# Altium integrated library TI Power Management Linear Regulator Dual Channel LDO.IntLib: 299 symbols (part 14 of 15)
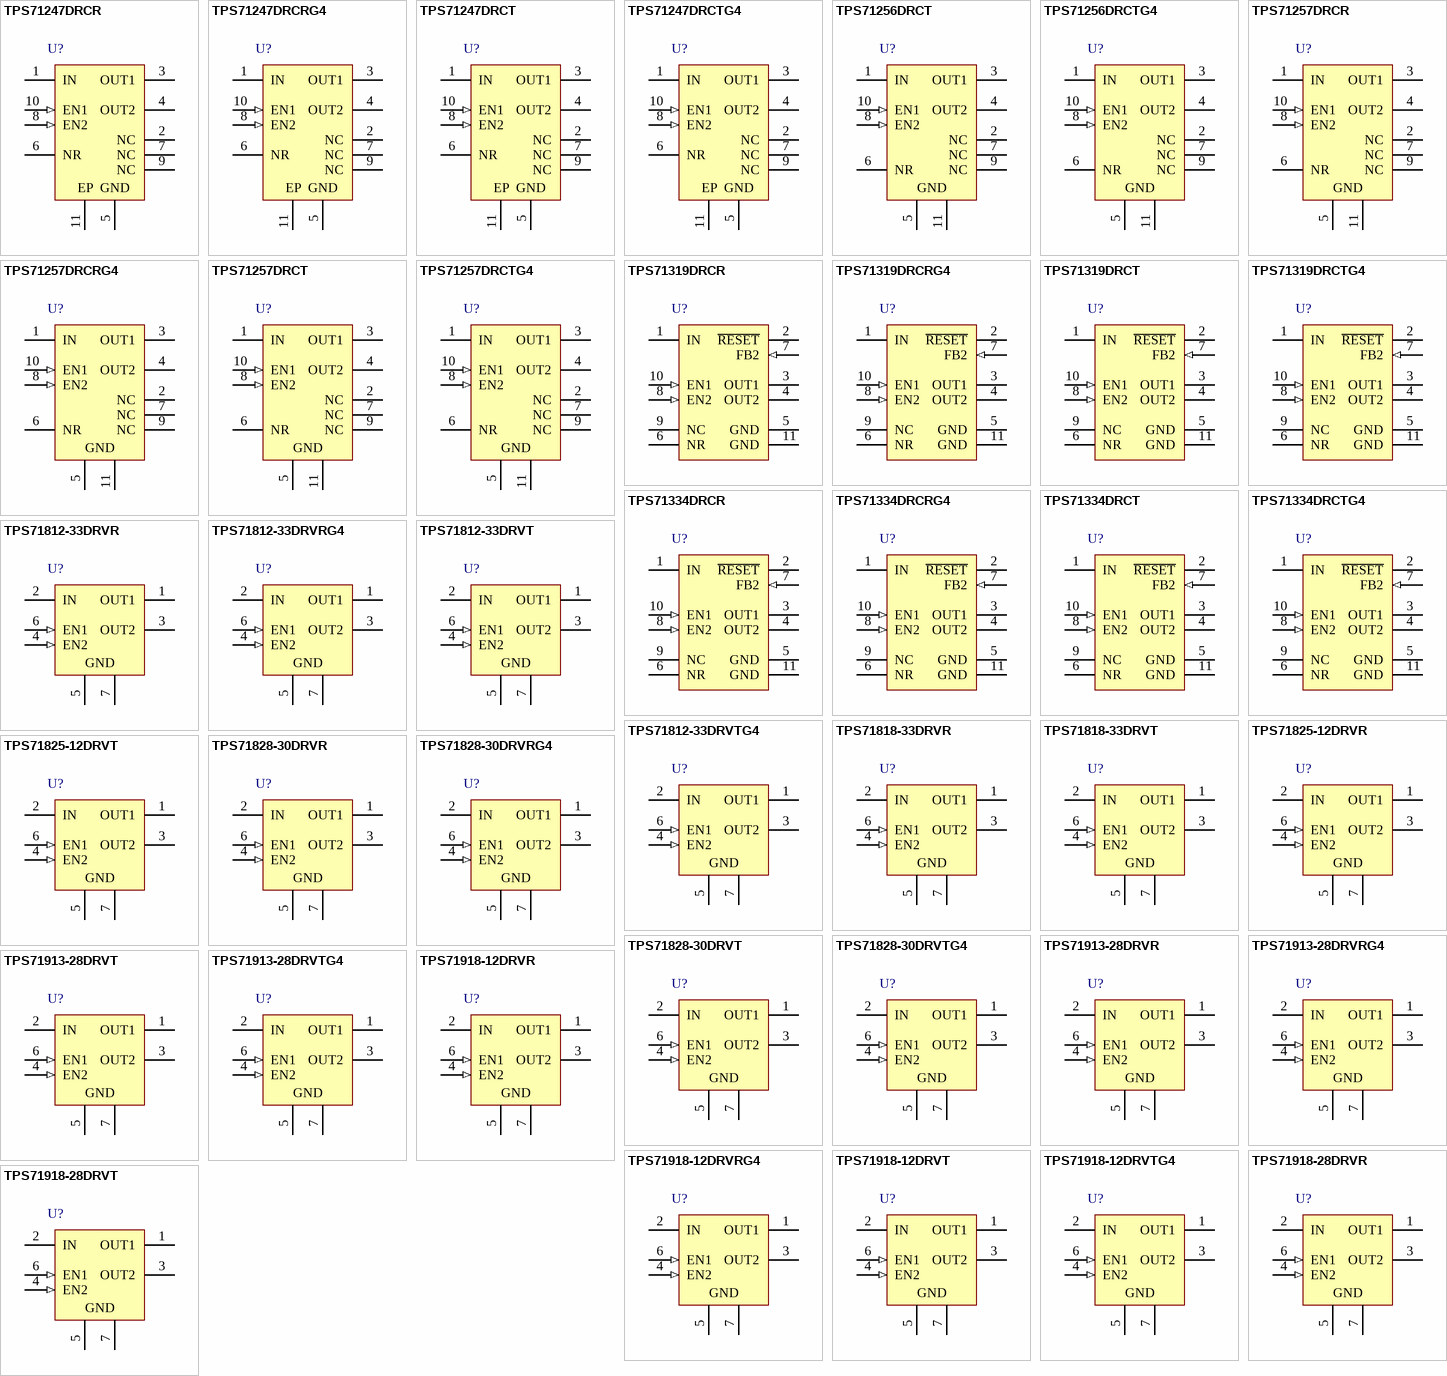
[diagram p24: symbols TPS71247DRCR to TPS71918-28DRVT]

## TPS71918-12DRVR
designator U?
Dual Output High PSRR LDO, 200 mA, Fixed 1.8, 1.2 V Output, 2.7 to 6.5 V Input, 6-pin SON (DRV), -40 to 125 degC, Green (RoHS & no Sb/Br); Manufacturer: Texas Instruments; PartNumber: TPS71918-12DRVR; Iout(Max)(A): 0.2; Iq(Typ)(mA): 0.09; SubFamily: Dual Channel LDO; Vdo(Typ)(mV): 230; Vin(Max)(V): 6.5; Vin(Min)(V): 2.7; Vout(Max)(V): 1.8; Vout2(Max)(V): 1.2; DatasheetVersion: SBVS088C; PackageVersion: 4206925/E; PackageReference: DRV6-1600X1000TP; PackageDescription: 6-Pin Plastic Small Outline No-Lead, Body 2 x 2 mm, Pitch 0.65 mm; Supplier 1: Digi-Key; Supplier Part Number 1: 296-22010-2-ND; Supplier 2: Digi-Key; Supplier Part Number 2: 296-22010-1-ND; Supplier 3: Digi-Key; Supplier Part Number 3: 296-22010-6-ND; Supplier 4: Newark; Supplier Part Number 4: 53M4011; Supplier 5: Mouser; Supplier Part Number 5: 595-TPS71918-12DRVR; Eco-Plan: Green (RoHS & no Sb/Br); Fixed Output Options(V): 1.8, 1.2; Iout2(A): 0.2; Vout(Min)(V): 1.8; Vout2(Min)(V): 1.2; Mounting Technology: Surface Mount; ComponentLink1Description: Manufacturer URL; ComponentLink1URL: http://www.ti.com/; ComponentLink2Description: Datasheet; ComponentLink2URL: http://www.ti.com/general/docs/lit/getliterature.tsp?genericPartNumber=TPS71918-12&fileType=pdf; ComponentLink3Description: Package Specification; ComponentLink3URL: http://www.ti.com/litv/pdf/mpds216d
footprint TI-DRV6-1600X1000TP_V (SON, 6-Leads, Body 2x2mm, Pitch 0.65mm, Thermal Pad 1X1.6mm)
pins: 1 OUT1 (power) "Output of Regulator 1. A small ceramic capacitor (typically >= 1uF) is needed from this pin to ground to assure stability.", 2 IN (power) "Input supply to both regulators.", 3 OUT2 (power) "Output of Regulator 2. A small ceramic capacitor (typically >= 1uF) is needed from this pin to ground to assure stability.", 4 EN2 (in) "Enable pin for Regulator 2. Driving the Enable pin (EN2) high turns on Regulator 2. Driving this pin low puts Regulator 2 into shutdown mode, reducing operating current.", 5 GND (power) "Ground.", 6 EN1 (in) "Enable pin for Regulator 1. Driving the Enable pin (EN1) high turns on Regulator 1. Driving this pin low puts Regulator 1 into shutdown mode, reducing operating current.", 7 GND (power) "DRV thermal pad should also be connected to ground."

## TPS71918-12DRVRG4
designator U?
Dual Output High PSRR LDO, 200 mA, Fixed 1.8, 1.2 V Output, 2.7 to 6.5 V Input, 6-pin SON (DRV), -40 to 125 degC, Green (RoHS & no Sb/Br); Manufacturer: Texas Instruments; PartNumber: TPS71918-12DRVRG4; Iout(Max)(A): 0.2; Iq(Typ)(mA): 0.09; SubFamily: Dual Channel LDO; Vdo(Typ)(mV): 230; Vin(Max)(V): 6.5; Vin(Min)(V): 2.7; Vout(Max)(V): 1.8; Vout2(Max)(V): 1.2; DatasheetVersion: SBVS088C; PackageVersion: 4206925/E; PackageReference: DRV6-1600X1000TP; PackageDescription: 6-Pin Plastic Small Outline No-Lead, Body 2 x 2 mm, Pitch 0.65 mm; Supplier 1: Digi-Key; Supplier Part Number 1: TPS71918-12DRVRG4-ND; Supplier 2: Newark; Supplier Part Number 2: 53M4012; Supplier 3: Mouser; Supplier Part Number 3: 595-TPS7191812DRVRG4; Eco-Plan: Green (RoHS & no Sb/Br); Fixed Output Options(V): 1.8, 1.2; Iout2(A): 0.2; Vout(Min)(V): 1.8; Vout2(Min)(V): 1.2; Mounting Technology: Surface Mount; ComponentLink1Description: Manufacturer URL; ComponentLink1URL: http://www.ti.com/; ComponentLink2Description: Datasheet; ComponentLink2URL: http://www.ti.com/general/docs/lit/getliterature.tsp?genericPartNumber=TPS71918-12&fileType=pdf; ComponentLink3Description: Package Specification; ComponentLink3URL: http://www.ti.com/litv/pdf/mpds216d
footprint TI-DRV6-1600X1000TP_V (SON, 6-Leads, Body 2x2mm, Pitch 0.65mm, Thermal Pad 1X1.6mm)
pins: 1 OUT1 (power) "Output of Regulator 1. A small ceramic capacitor (typically >= 1uF) is needed from this pin to ground to assure stability.", 2 IN (power) "Input supply to both regulators.", 3 OUT2 (power) "Output of Regulator 2. A small ceramic capacitor (typically >= 1uF) is needed from this pin to ground to assure stability.", 4 EN2 (in) "Enable pin for Regulator 2. Driving the Enable pin (EN2) high turns on Regulator 2. Driving this pin low puts Regulator 2 into shutdown mode, reducing operating current.", 5 GND (power) "Ground.", 6 EN1 (in) "Enable pin for Regulator 1. Driving the Enable pin (EN1) high turns on Regulator 1. Driving this pin low puts Regulator 1 into shutdown mode, reducing operating current.", 7 GND (power) "DRV thermal pad should also be connected to ground."

## TPS71918-12DRVT
designator U?
Dual Output High PSRR LDO, 200 mA, Fixed 1.8, 1.2 V Output, 2.7 to 6.5 V Input, 6-pin SON (DRV), -40 to 125 degC, Green (RoHS & no Sb/Br); Manufacturer: Texas Instruments; PartNumber: TPS71918-12DRVT; Iout(Max)(A): 0.2; Iq(Typ)(mA): 0.09; SubFamily: Dual Channel LDO; Vdo(Typ)(mV): 230; Vin(Max)(V): 6.5; Vin(Min)(V): 2.7; Vout(Max)(V): 1.8; Vout2(Max)(V): 1.2; DatasheetVersion: SBVS088C; PackageVersion: 4206925/E; PackageReference: DRV6-1600X1000TP; PackageDescription: 6-Pin Plastic Small Outline No-Lead, Body 2 x 2 mm, Pitch 0.65 mm; Supplier 1: Digi-Key; Supplier Part Number 1: TPS71918-12DRVT-ND; Supplier 2: Newark; Supplier Part Number 2: 53M4013; Supplier 3: Mouser; Supplier Part Number 3: 595-TPS71918-12DRVT; Eco-Plan: Green (RoHS & no Sb/Br); Fixed Output Options(V): 1.8, 1.2; Iout2(A): 0.2; Vout(Min)(V): 1.8; Vout2(Min)(V): 1.2; Mounting Technology: Surface Mount; ComponentLink1Description: Manufacturer URL; ComponentLink1URL: http://www.ti.com/; ComponentLink2Description: Datasheet; ComponentLink2URL: http://www.ti.com/general/docs/lit/getliterature.tsp?genericPartNumber=TPS71918-12&fileType=pdf; ComponentLink3Description: Package Specification; ComponentLink3URL: http://www.ti.com/litv/pdf/mpds216d
footprint TI-DRV6-1600X1000TP_V (SON, 6-Leads, Body 2x2mm, Pitch 0.65mm, Thermal Pad 1X1.6mm)
pins: 1 OUT1 (power) "Output of Regulator 1. A small ceramic capacitor (typically >= 1uF) is needed from this pin to ground to assure stability.", 2 IN (power) "Input supply to both regulators.", 3 OUT2 (power) "Output of Regulator 2. A small ceramic capacitor (typically >= 1uF) is needed from this pin to ground to assure stability.", 4 EN2 (in) "Enable pin for Regulator 2. Driving the Enable pin (EN2) high turns on Regulator 2. Driving this pin low puts Regulator 2 into shutdown mode, reducing operating current.", 5 GND (power) "Ground.", 6 EN1 (in) "Enable pin for Regulator 1. Driving the Enable pin (EN1) high turns on Regulator 1. Driving this pin low puts Regulator 1 into shutdown mode, reducing operating current.", 7 GND (power) "DRV thermal pad should also be connected to ground."

## TPS71918-12DRVTG4
designator U?
Dual Output High PSRR LDO, 200 mA, Fixed 1.8, 1.2 V Output, 2.7 to 6.5 V Input, 6-pin SON (DRV), -40 to 125 degC, Green (RoHS & no Sb/Br); Manufacturer: Texas Instruments; PartNumber: TPS71918-12DRVTG4; Iout(Max)(A): 0.2; Iq(Typ)(mA): 0.09; SubFamily: Dual Channel LDO; Vdo(Typ)(mV): 230; Vin(Max)(V): 6.5; Vin(Min)(V): 2.7; Vout(Max)(V): 1.8; Vout2(Max)(V): 1.2; DatasheetVersion: SBVS088C; PackageVersion: 4206925/E; PackageReference: DRV6-1600X1000TP; PackageDescription: 6-Pin Plastic Small Outline No-Lead, Body 2 x 2 mm, Pitch 0.65 mm; Supplier 1: Digi-Key; Supplier Part Number 1: TPS71918-12DRVTG4-ND; Supplier 2: Newark; Supplier Part Number 2: 53M4014; Supplier 3: Mouser; Supplier Part Number 3: 595-TPS7191812DRVTG4; Eco-Plan: Green (RoHS & no Sb/Br); Fixed Output Options(V): 1.8, 1.2; Iout2(A): 0.2; Vout(Min)(V): 1.8; Vout2(Min)(V): 1.2; Mounting Technology: Surface Mount; ComponentLink1Description: Manufacturer URL; ComponentLink1URL: http://www.ti.com/; ComponentLink2Description: Datasheet; ComponentLink2URL: http://www.ti.com/general/docs/lit/getliterature.tsp?genericPartNumber=TPS71918-12&fileType=pdf; ComponentLink3Description: Package Specification; ComponentLink3URL: http://www.ti.com/litv/pdf/mpds216d
footprint TI-DRV6-1600X1000TP_V (SON, 6-Leads, Body 2x2mm, Pitch 0.65mm, Thermal Pad 1X1.6mm)
pins: 1 OUT1 (power) "Output of Regulator 1. A small ceramic capacitor (typically >= 1uF) is needed from this pin to ground to assure stability.", 2 IN (power) "Input supply to both regulators.", 3 OUT2 (power) "Output of Regulator 2. A small ceramic capacitor (typically >= 1uF) is needed from this pin to ground to assure stability.", 4 EN2 (in) "Enable pin for Regulator 2. Driving the Enable pin (EN2) high turns on Regulator 2. Driving this pin low puts Regulator 2 into shutdown mode, reducing operating current.", 5 GND (power) "Ground.", 6 EN1 (in) "Enable pin for Regulator 1. Driving the Enable pin (EN1) high turns on Regulator 1. Driving this pin low puts Regulator 1 into shutdown mode, reducing operating current.", 7 GND (power) "DRV thermal pad should also be connected to ground."

## TPS71918-28DRVR
designator U?
Dual Output High PSRR LDO, 200 mA, Fixed 1.8, 2.8 V Output, 0.9 to 6.5 V Input, 6-pin SON (DRV), -40 to 125 degC, Green (RoHS & no Sb/Br); Manufacturer: Texas Instruments; PartNumber: TPS71918-28DRVR; Iout(Max)(A): 0.2; Iq(Typ)(mA): 0.09; SubFamily: Dual Channel LDO; Vdo(Typ)(mV): 230; Vin(Max)(V): 6.5; Vin(Min)(V): 0.9; DatasheetVersion: SBVS088C; PackageVersion: 4206925/E; PackageReference: DRV6-1600X1000TP; PackageDescription: 6-Pin Plastic Small Outline No-Lead, Body 2 x 2 mm, Pitch 0.65 mm; Supplier 1: Digi-Key; Supplier Part Number 1: 296-24833-2-ND; Supplier 2: Digi-Key; Supplier Part Number 2: 296-24833-1-ND; Supplier 3: Digi-Key; Supplier Part Number 3: 296-24833-6-ND; Supplier 4: Newark; Supplier Part Number 4: 25R0137; Supplier 5: Mouser; Supplier Part Number 5: 595-TPS71918-28DRVR; Eco-Plan: Green (RoHS & no Sb/Br); Fixed Output Options(V): 1.8, 2.8; Iout2(A): 0.2; Mounting Technology: Surface Mount; ComponentLink1Description: Manufacturer URL; ComponentLink1URL: http://www.ti.com/; ComponentLink2Description: Datasheet; ComponentLink2URL: http://www.ti.com/general/docs/lit/getliterature.tsp?genericPartNumber=TPS71918-28&fileType=pdf; ComponentLink3Description: Package Specification; ComponentLink3URL: http://www.ti.com/litv/pdf/mpds216d
footprint TI-DRV6-1600X1000TP_V (SON, 6-Leads, Body 2x2mm, Pitch 0.65mm, Thermal Pad 1X1.6mm)
pins: 1 OUT1 (power) "Output of Regulator 1. A small ceramic capacitor (typically >= 1uF) is needed from this pin to ground to assure stability.", 2 IN (power) "Input supply to both regulators.", 3 OUT2 (power) "Output of Regulator 2. A small ceramic capacitor (typically >= 1uF) is needed from this pin to ground to assure stability.", 4 EN2 (in) "Enable pin for Regulator 2. Driving the Enable pin (EN2) high turns on Regulator 2. Driving this pin low puts Regulator 2 into shutdown mode, reducing operating current.", 5 GND (power) "Ground.", 6 EN1 (in) "Enable pin for Regulator 1. Driving the Enable pin (EN1) high turns on Regulator 1. Driving this pin low puts Regulator 1 into shutdown mode, reducing operating current.", 7 GND (power) "DRV thermal pad should also be connected to ground."

## TPS71918-28DRVT
designator U?
Dual Output High PSRR LDO, 200 mA, Fixed 1.8, 2.8 V Output, 0.9 to 6.5 V Input, 6-pin SON (DRV), -40 to 125 degC, Green (RoHS & no Sb/Br); Manufacturer: Texas Instruments; PartNumber: TPS71918-28DRVT; Iout(Max)(A): 0.2; Iq(Typ)(mA): 0.09; SubFamily: Dual Channel LDO; Vdo(Typ)(mV): 230; Vin(Max)(V): 6.5; Vin(Min)(V): 0.9; DatasheetVersion: SBVS088C; PackageVersion: 4206925/E; PackageReference: DRV6-1600X1000TP; PackageDescription: 6-Pin Plastic Small Outline No-Lead, Body 2 x 2 mm, Pitch 0.65 mm; Supplier 1: Digi-Key; Supplier Part Number 1: TPS71918-28DRVT-ND; Supplier 2: Newark; Supplier Part Number 2: 25R0138; Supplier 3: Mouser; Supplier Part Number 3: 595-TPS71918-28DRVT; Eco-Plan: Green (RoHS & no Sb/Br); Fixed Output Options(V): 1.8, 2.8; Iout2(A): 0.2; Mounting Technology: Surface Mount; ComponentLink1Description: Manufacturer URL; ComponentLink1URL: http://www.ti.com/; ComponentLink2Description: Datasheet; ComponentLink2URL: http://www.ti.com/general/docs/lit/getliterature.tsp?genericPartNumber=TPS71918-28&fileType=pdf; ComponentLink3Description: Package Specification; ComponentLink3URL: http://www.ti.com/litv/pdf/mpds216d
footprint TI-DRV6-1600X1000TP_V (SON, 6-Leads, Body 2x2mm, Pitch 0.65mm, Thermal Pad 1X1.6mm)
pins: 1 OUT1 (power) "Output of Regulator 1. A small ceramic capacitor (typically >= 1uF) is needed from this pin to ground to assure stability.", 2 IN (power) "Input supply to both regulators.", 3 OUT2 (power) "Output of Regulator 2. A small ceramic capacitor (typically >= 1uF) is needed from this pin to ground to assure stability.", 4 EN2 (in) "Enable pin for Regulator 2. Driving the Enable pin (EN2) high turns on Regulator 2. Driving this pin low puts Regulator 2 into shutdown mode, reducing operating current.", 5 GND (power) "Ground.", 6 EN1 (in) "Enable pin for Regulator 1. Driving the Enable pin (EN1) high turns on Regulator 1. Driving this pin low puts Regulator 1 into shutdown mode, reducing operating current.", 7 GND (power) "DRV thermal pad should also be connected to ground."

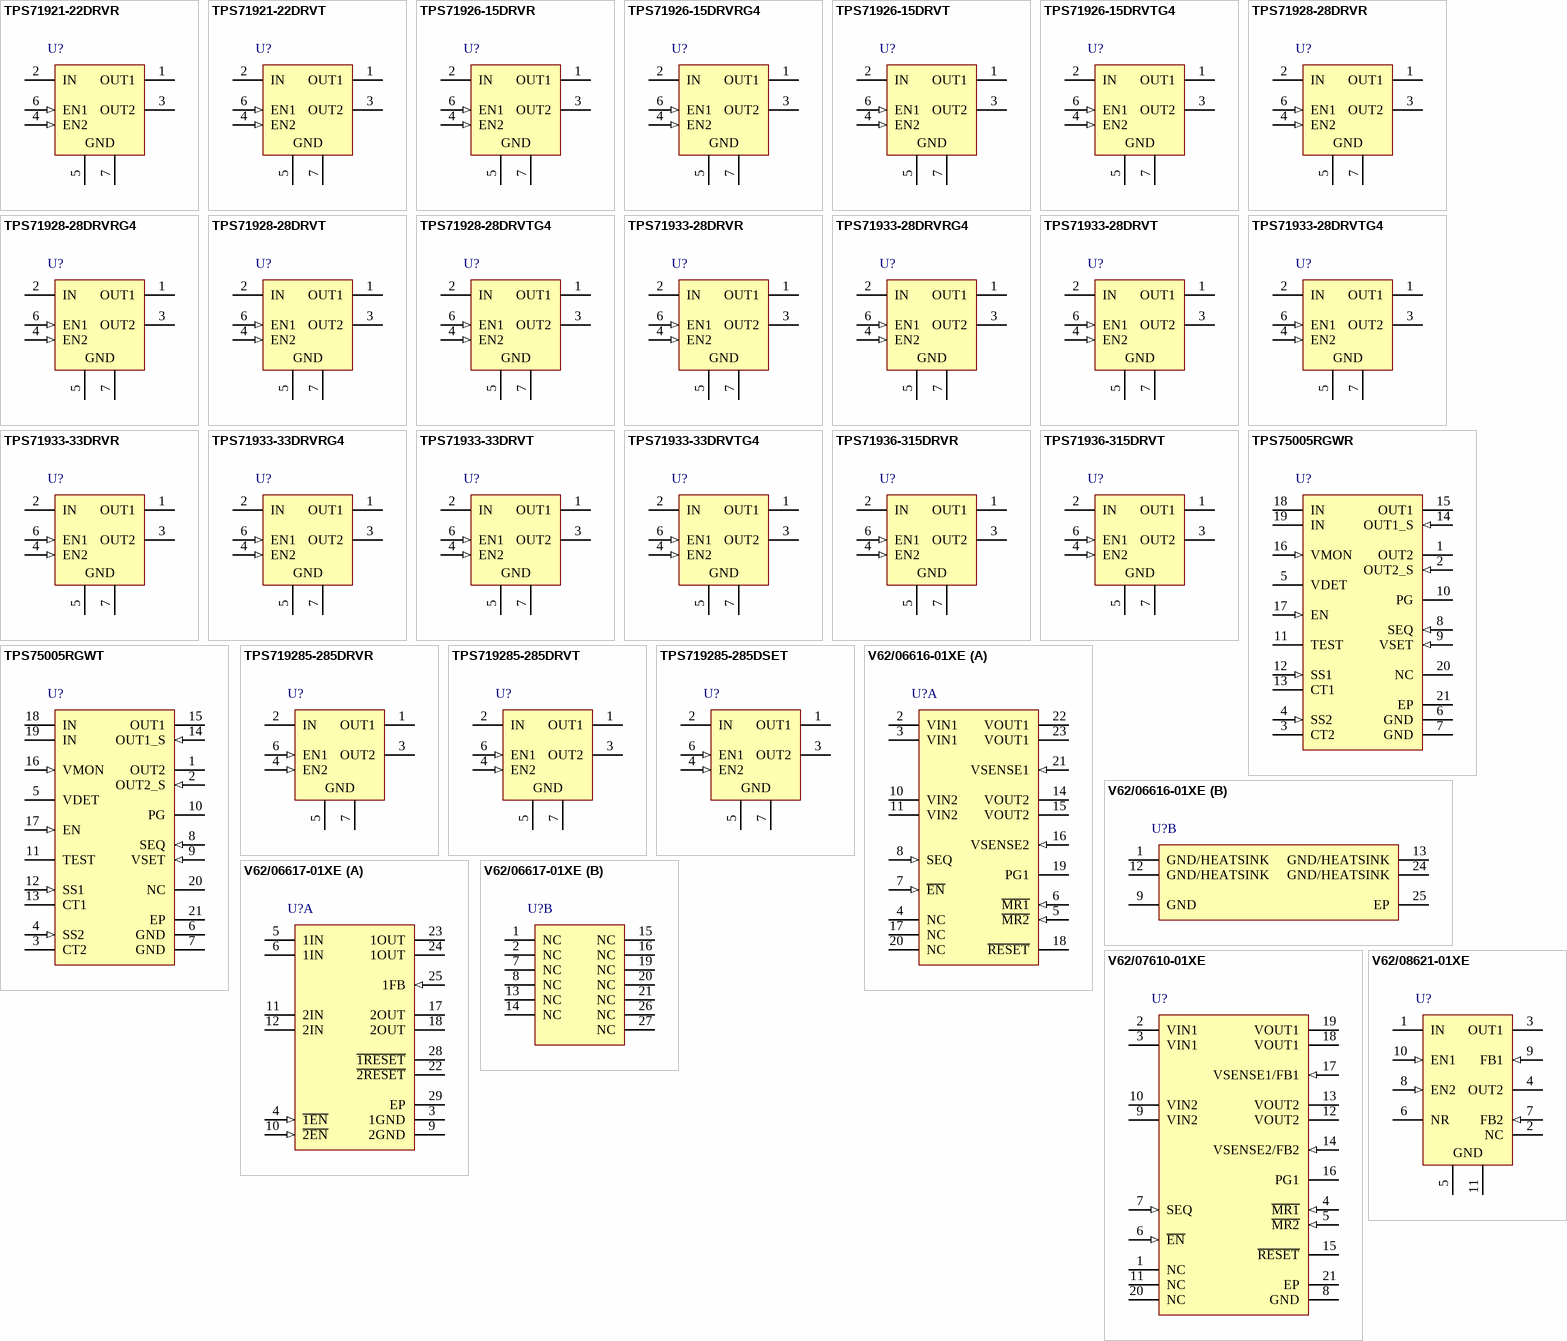
[diagram p11: symbols TPS71921-22DRVR to V62/08621-01XE]

## TPS71921-22DRVR
designator U?
Dual Output High PSRR LDO, 200 mA, Fixed 2.1, 2.2 V Output, 2.7 to 6.5 V Input, 6-pin SON (DRV), -40 to 125 degC, Green (RoHS & no Sb/Br); Manufacturer: Texas Instruments; PartNumber: TPS71921-22DRVR; Iout(Max)(A): 0.2; Iq(Typ)(mA): 0.09; SubFamily: Dual Channel LDO; Vdo(Typ)(mV): 230; Vin(Max)(V): 6.5; Vin(Min)(V): 2.7; Vout(Max)(V): 2.1; Vout2(Max)(V): 2.2; DatasheetVersion: SBVS088C; PackageVersion: 4206925/E; PackageReference: DRV6-1600X1000TP; PackageDescription: 6-Pin Plastic Small Outline No-Lead, Body 2 x 2 mm, Pitch 0.65 mm; Supplier 1: Digi-Key; Supplier Part Number 1: 296-24298-2-ND; Supplier 2: Digi-Key; Supplier Part Number 2: 296-24298-1-ND; Supplier 3: Digi-Key; Supplier Part Number 3: 296-24298-6-ND; Supplier 4: Mouser; Supplier Part Number 4: 595-TPS71921-22DRVR; Eco-Plan: Green (RoHS & no Sb/Br); Fixed Output Options(V): 2.1, 2.2; Iout2(A): 0.2; Vout(Min)(V): 2.1; Vout2(Min)(V): 2.2; Mounting Technology: Surface Mount; ComponentLink1Description: Manufacturer URL; ComponentLink1URL: http://www.ti.com/; ComponentLink2Description: Datasheet; ComponentLink2URL: http://www.ti.com/general/docs/lit/getliterature.tsp?genericPartNumber=TPS71921-22&fileType=pdf; ComponentLink3Description: Package Specification; ComponentLink3URL: http://www.ti.com/litv/pdf/mpds216d
footprint TI-DRV6-1600X1000TP_V (SON, 6-Leads, Body 2x2mm, Pitch 0.65mm, Thermal Pad 1X1.6mm)
pins: 1 OUT1 (power) "Output of Regulator 1. A small ceramic capacitor (typically >= 1uF) is needed from this pin to ground to assure stability.", 2 IN (power) "Input supply to both regulators.", 3 OUT2 (power) "Output of Regulator 2. A small ceramic capacitor (typically >= 1uF) is needed from this pin to ground to assure stability.", 4 EN2 (in) "Enable pin for Regulator 2. Driving the Enable pin (EN2) high turns on Regulator 2. Driving this pin low puts Regulator 2 into shutdown mode, reducing operating current.", 5 GND (power) "Ground.", 6 EN1 (in) "Enable pin for Regulator 1. Driving the Enable pin (EN1) high turns on Regulator 1. Driving this pin low puts Regulator 1 into shutdown mode, reducing operating current.", 7 GND (power) "DRV thermal pad should also be connected to ground."

## TPS71921-22DRVT
designator U?
Dual Output High PSRR LDO, 200 mA, Fixed 2.1, 2.2 V Output, 2.7 to 6.5 V Input, 6-pin SON (DRV), -40 to 125 degC, Green (RoHS & no Sb/Br); Manufacturer: Texas Instruments; PartNumber: TPS71921-22DRVT; Iout(Max)(A): 0.2; Iq(Typ)(mA): 0.09; SubFamily: Dual Channel LDO; Vdo(Typ)(mV): 230; Vin(Max)(V): 6.5; Vin(Min)(V): 2.7; Vout(Max)(V): 2.1; Vout2(Max)(V): 2.2; DatasheetVersion: SBVS088C; PackageVersion: 4206925/E; PackageReference: DRV6-1600X1000TP; PackageDescription: 6-Pin Plastic Small Outline No-Lead, Body 2 x 2 mm, Pitch 0.65 mm; Supplier 1: Digi-Key; Supplier Part Number 1: 296-24394-2-ND; Supplier 2: Digi-Key; Supplier Part Number 2: 296-24394-1-ND; Supplier 3: Digi-Key; Supplier Part Number 3: 296-24394-6-ND; Supplier 4: Farnell; Supplier Part Number 4: 1735604; Supplier 5: Farnell; Supplier Part Number 5: 1735604RL; Supplier 6: Newark; Supplier Part Number 6: 24R7807; Supplier 7: Newark; Supplier Part Number 7: 05R8708; Supplier 8: Mouser; Supplier Part Number 8: 595-TPS71921-22DRVT; Eco-Plan: Green (RoHS & no Sb/Br); Fixed Output Options(V): 2.1, 2.2; Iout2(A): 0.2; Vout(Min)(V): 2.1; Vout2(Min)(V): 2.2; Mounting Technology: Surface Mount; ComponentLink1Description: Manufacturer URL; ComponentLink1URL: http://www.ti.com/; ComponentLink2Description: Datasheet; ComponentLink2URL: http://www.ti.com/general/docs/lit/getliterature.tsp?genericPartNumber=TPS71921-22&fileType=pdf; ComponentLink3Description: Package Specification; ComponentLink3URL: http://www.ti.com/litv/pdf/mpds216d
footprint TI-DRV6-1600X1000TP_V (SON, 6-Leads, Body 2x2mm, Pitch 0.65mm, Thermal Pad 1X1.6mm)
pins: 1 OUT1 (power) "Output of Regulator 1. A small ceramic capacitor (typically >= 1uF) is needed from this pin to ground to assure stability.", 2 IN (power) "Input supply to both regulators.", 3 OUT2 (power) "Output of Regulator 2. A small ceramic capacitor (typically >= 1uF) is needed from this pin to ground to assure stability.", 4 EN2 (in) "Enable pin for Regulator 2. Driving the Enable pin (EN2) high turns on Regulator 2. Driving this pin low puts Regulator 2 into shutdown mode, reducing operating current.", 5 GND (power) "Ground.", 6 EN1 (in) "Enable pin for Regulator 1. Driving the Enable pin (EN1) high turns on Regulator 1. Driving this pin low puts Regulator 1 into shutdown mode, reducing operating current.", 7 GND (power) "DRV thermal pad should also be connected to ground."

## TPS71926-15DRVR
designator U?
Dual Output High PSRR LDO, 200 mA, Fixed 2.5, 1.5 V Output, 2.7 to 6.5 V Input, 6-pin SON (DRV), -40 to 125 degC, Green (RoHS & no Sb/Br); Manufacturer: Texas Instruments; PartNumber: TPS71926-15DRVR; Iout(Max)(A): 0.2; Iq(Typ)(mA): 0.09; SubFamily: Dual Channel LDO; Vdo(Typ)(mV): 230; Vin(Max)(V): 6.5; Vin(Min)(V): 2.7; Vout(Max)(V): 2.6; Vout2(Max)(V): 1.5; DatasheetVersion: SBVS088C; PackageVersion: 4206925/E; PackageReference: DRV6-1600X1000TP; PackageDescription: 6-Pin Plastic Small Outline No-Lead, Body 2 x 2 mm, Pitch 0.65 mm; Supplier 1: Digi-Key; Supplier Part Number 1: 296-21659-2-ND; Supplier 2: Digi-Key; Supplier Part Number 2: 296-21659-1-ND; Supplier 3: Digi-Key; Supplier Part Number 3: 296-21659-6-ND; Supplier 4: Newark; Supplier Part Number 4: 37M0074; Supplier 5: Mouser; Supplier Part Number 5: 595-TPS71926-15DRVR; Eco-Plan: Green (RoHS & no Sb/Br); Fixed Output Options(V): 2.5, 1.5; Iout2(A): 0.2; Vout(Min)(V): 2.6; Vout2(Min)(V): 1.5; Mounting Technology: Surface Mount; ComponentLink1Description: Manufacturer URL; ComponentLink1URL: http://www.ti.com/; ComponentLink2Description: Datasheet; ComponentLink2URL: http://www.ti.com/general/docs/lit/getliterature.tsp?genericPartNumber=TPS71926-15&fileType=pdf; ComponentLink3Description: Package Specification; ComponentLink3URL: http://www.ti.com/litv/pdf/mpds216d
footprint TI-DRV6-1600X1000TP_V (SON, 6-Leads, Body 2x2mm, Pitch 0.65mm, Thermal Pad 1X1.6mm)
pins: 1 OUT1 (power) "Output of Regulator 1. A small ceramic capacitor (typically >= 1uF) is needed from this pin to ground to assure stability.", 2 IN (power) "Input supply to both regulators.", 3 OUT2 (power) "Output of Regulator 2. A small ceramic capacitor (typically >= 1uF) is needed from this pin to ground to assure stability.", 4 EN2 (in) "Enable pin for Regulator 2. Driving the Enable pin (EN2) high turns on Regulator 2. Driving this pin low puts Regulator 2 into shutdown mode, reducing operating current.", 5 GND (power) "Ground.", 6 EN1 (in) "Enable pin for Regulator 1. Driving the Enable pin (EN1) high turns on Regulator 1. Driving this pin low puts Regulator 1 into shutdown mode, reducing operating current.", 7 GND (power) "DRV thermal pad should also be connected to ground."

## TPS71926-15DRVRG4
designator U?
Dual Output High PSRR LDO, 200 mA, Fixed 2.5, 1.5 V Output, 2.7 to 6.5 V Input, 6-pin SON (DRV), -40 to 125 degC, Green (RoHS & no Sb/Br); Manufacturer: Texas Instruments; PartNumber: TPS71926-15DRVRG4; Iout(Max)(A): 0.2; Iq(Typ)(mA): 0.09; SubFamily: Dual Channel LDO; Vdo(Typ)(mV): 230; Vin(Max)(V): 6.5; Vin(Min)(V): 2.7; Vout(Max)(V): 2.6; Vout2(Max)(V): 1.5; DatasheetVersion: SBVS088C; PackageVersion: 4206925/E; PackageReference: DRV6-1600X1000TP; PackageDescription: 6-Pin Plastic Small Outline No-Lead, Body 2 x 2 mm, Pitch 0.65 mm; Supplier 1: Digi-Key; Supplier Part Number 1: TPS71926-15DRVRG4-ND; Supplier 2: Newark; Supplier Part Number 2: 41M5899; Supplier 3: Mouser; Supplier Part Number 3: 595-TPS7192615DRVRG4; Eco-Plan: Green (RoHS & no Sb/Br); Fixed Output Options(V): 2.5, 1.5; Iout2(A): 0.2; Vout(Min)(V): 2.6; Vout2(Min)(V): 1.5; Mounting Technology: Surface Mount; ComponentLink1Description: Manufacturer URL; ComponentLink1URL: http://www.ti.com/; ComponentLink2Description: Datasheet; ComponentLink2URL: http://www.ti.com/general/docs/lit/getliterature.tsp?genericPartNumber=TPS71926-15&fileType=pdf; ComponentLink3Description: Package Specification; ComponentLink3URL: http://www.ti.com/litv/pdf/mpds216d
footprint TI-DRV6-1600X1000TP_V (SON, 6-Leads, Body 2x2mm, Pitch 0.65mm, Thermal Pad 1X1.6mm)
pins: 1 OUT1 (power) "Output of Regulator 1. A small ceramic capacitor (typically >= 1uF) is needed from this pin to ground to assure stability.", 2 IN (power) "Input supply to both regulators.", 3 OUT2 (power) "Output of Regulator 2. A small ceramic capacitor (typically >= 1uF) is needed from this pin to ground to assure stability.", 4 EN2 (in) "Enable pin for Regulator 2. Driving the Enable pin (EN2) high turns on Regulator 2. Driving this pin low puts Regulator 2 into shutdown mode, reducing operating current.", 5 GND (power) "Ground.", 6 EN1 (in) "Enable pin for Regulator 1. Driving the Enable pin (EN1) high turns on Regulator 1. Driving this pin low puts Regulator 1 into shutdown mode, reducing operating current.", 7 GND (power) "DRV thermal pad should also be connected to ground."

## TPS71926-15DRVT
designator U?
Dual Output High PSRR LDO, 200 mA, Fixed 2.5, 1.5 V Output, 2.7 to 6.5 V Input, 6-pin SON (DRV), -40 to 125 degC, Green (RoHS & no Sb/Br); Manufacturer: Texas Instruments; PartNumber: TPS71926-15DRVT; Iout(Max)(A): 0.2; Iq(Typ)(mA): 0.09; SubFamily: Dual Channel LDO; Vdo(Typ)(mV): 230; Vin(Max)(V): 6.5; Vin(Min)(V): 2.7; Vout(Max)(V): 2.6; Vout2(Max)(V): 1.5; DatasheetVersion: SBVS088C; PackageVersion: 4206925/E; PackageReference: DRV6-1600X1000TP; PackageDescription: 6-Pin Plastic Small Outline No-Lead, Body 2 x 2 mm, Pitch 0.65 mm; Supplier 1: Digi-Key; Supplier Part Number 1: 296-32546-2-ND; Supplier 2: Digi-Key; Supplier Part Number 2: 296-32546-1-ND; Supplier 3: Digi-Key; Supplier Part Number 3: 296-32546-6-ND; Supplier 4: Newark; Supplier Part Number 4: 37M0075; Supplier 5: Mouser; Supplier Part Number 5: 595-TPS71926-15DRVT; Eco-Plan: Green (RoHS & no Sb/Br); Fixed Output Options(V): 2.5, 1.5; Iout2(A): 0.2; Vout(Min)(V): 2.6; Vout2(Min)(V): 1.5; Mounting Technology: Surface Mount; ComponentLink1Description: Manufacturer URL; ComponentLink1URL: http://www.ti.com/; ComponentLink2Description: Datasheet; ComponentLink2URL: http://www.ti.com/general/docs/lit/getliterature.tsp?genericPartNumber=TPS71926-15&fileType=pdf; ComponentLink3Description: Package Specification; ComponentLink3URL: http://www.ti.com/litv/pdf/mpds216d
footprint TI-DRV6-1600X1000TP_V (SON, 6-Leads, Body 2x2mm, Pitch 0.65mm, Thermal Pad 1X1.6mm)
pins: 1 OUT1 (power) "Output of Regulator 1. A small ceramic capacitor (typically >= 1uF) is needed from this pin to ground to assure stability.", 2 IN (power) "Input supply to both regulators.", 3 OUT2 (power) "Output of Regulator 2. A small ceramic capacitor (typically >= 1uF) is needed from this pin to ground to assure stability.", 4 EN2 (in) "Enable pin for Regulator 2. Driving the Enable pin (EN2) high turns on Regulator 2. Driving this pin low puts Regulator 2 into shutdown mode, reducing operating current.", 5 GND (power) "Ground.", 6 EN1 (in) "Enable pin for Regulator 1. Driving the Enable pin (EN1) high turns on Regulator 1. Driving this pin low puts Regulator 1 into shutdown mode, reducing operating current.", 7 GND (power) "DRV thermal pad should also be connected to ground."

## TPS71926-15DRVTG4
designator U?
Dual Output High PSRR LDO, 200 mA, Fixed 2.5, 1.5 V Output, 2.7 to 6.5 V Input, 6-pin SON (DRV), -40 to 125 degC, Green (RoHS & no Sb/Br); Manufacturer: Texas Instruments; PartNumber: TPS71926-15DRVTG4; Iout(Max)(A): 0.2; Iq(Typ)(mA): 0.09; SubFamily: Dual Channel LDO; Vdo(Typ)(mV): 230; Vin(Max)(V): 6.5; Vin(Min)(V): 2.7; Vout(Max)(V): 2.6; Vout2(Max)(V): 1.5; DatasheetVersion: SBVS088C; PackageVersion: 4206925/E; PackageReference: DRV6-1600X1000TP; PackageDescription: 6-Pin Plastic Small Outline No-Lead, Body 2 x 2 mm, Pitch 0.65 mm; Supplier 1: Digi-Key; Supplier Part Number 1: TPS71926-15DRVTG4-ND; Supplier 2: Newark; Supplier Part Number 2: 41M5900; Supplier 3: Mouser; Supplier Part Number 3: 595-TPS7192615DRVTG4; Eco-Plan: Green (RoHS & no Sb/Br); Fixed Output Options(V): 2.5, 1.5; Iout2(A): 0.2; Vout(Min)(V): 2.6; Vout2(Min)(V): 1.5; Mounting Technology: Surface Mount; ComponentLink1Description: Manufacturer URL; ComponentLink1URL: http://www.ti.com/; ComponentLink2Description: Datasheet; ComponentLink2URL: http://www.ti.com/general/docs/lit/getliterature.tsp?genericPartNumber=TPS71926-15&fileType=pdf; ComponentLink3Description: Package Specification; ComponentLink3URL: http://www.ti.com/litv/pdf/mpds216d
footprint TI-DRV6-1600X1000TP_V (SON, 6-Leads, Body 2x2mm, Pitch 0.65mm, Thermal Pad 1X1.6mm)
pins: 1 OUT1 (power) "Output of Regulator 1. A small ceramic capacitor (typically >= 1uF) is needed from this pin to ground to assure stability.", 2 IN (power) "Input supply to both regulators.", 3 OUT2 (power) "Output of Regulator 2. A small ceramic capacitor (typically >= 1uF) is needed from this pin to ground to assure stability.", 4 EN2 (in) "Enable pin for Regulator 2. Driving the Enable pin (EN2) high turns on Regulator 2. Driving this pin low puts Regulator 2 into shutdown mode, reducing operating current.", 5 GND (power) "Ground.", 6 EN1 (in) "Enable pin for Regulator 1. Driving the Enable pin (EN1) high turns on Regulator 1. Driving this pin low puts Regulator 1 into shutdown mode, reducing operating current.", 7 GND (power) "DRV thermal pad should also be connected to ground."

## TPS71928-28DRVR
designator U?
Dual Output High PSRR LDO, 200 mA, Fixed 2.8 V Output, 2.7 to 6.5 V Input, 6-pin SON (DRV), -40 to 125 degC, Green (RoHS & no Sb/Br); Manufacturer: Texas Instruments; PartNumber: TPS71928-28DRVR; Fixed Output Options(V): 2.8; Iout(Max)(A): 0.2; Iq(Typ)(mA): 0.09; SubFamily: Dual Channel LDO; Vdo(Typ)(mV): 230; Vin(Max)(V): 6.5; Vin(Min)(V): 2.7; DatasheetVersion: SBVS088C; PackageVersion: 4206925/E; PackageReference: DRV6-1600X1000TP; PackageDescription: 6-Pin Plastic Small Outline No-Lead, Body 2 x 2 mm, Pitch 0.65 mm; Supplier 1: Digi-Key; Supplier Part Number 1: 296-21660-2-ND; Supplier 2: Digi-Key; Supplier Part Number 2: 296-21660-1-ND; Supplier 3: Digi-Key; Supplier Part Number 3: 296-21660-6-ND; Supplier 4: Newark; Supplier Part Number 4: 37M0076; Supplier 5: Mouser; Supplier Part Number 5: 595-TPS71928-28DRVR; Eco-Plan: Green (RoHS & no Sb/Br); Iout2(A): 0.2; Vout(Max)(V): 2.8; Vout(Min)(V): 2.8; Vout2(Max)(V): 2.8; Vout2(Min)(V): 2.8; Mounting Technology: Surface Mount; ComponentLink1Description: Manufacturer URL; ComponentLink1URL: http://www.ti.com/; ComponentLink2Description: Datasheet; ComponentLink2URL: http://www.ti.com/general/docs/lit/getliterature.tsp?genericPartNumber=TPS71928-28&fileType=pdf; ComponentLink3Description: Package Specification; ComponentLink3URL: http://www.ti.com/litv/pdf/mpds216d
footprint TI-DRV6-1600X1000TP_V (SON, 6-Leads, Body 2x2mm, Pitch 0.65mm, Thermal Pad 1X1.6mm)
pins: 1 OUT1 (power) "Output of Regulator 1. A small ceramic capacitor (typically >= 1uF) is needed from this pin to ground to assure stability.", 2 IN (power) "Input supply to both regulators.", 3 OUT2 (power) "Output of Regulator 2. A small ceramic capacitor (typically >= 1uF) is needed from this pin to ground to assure stability.", 4 EN2 (in) "Enable pin for Regulator 2. Driving the Enable pin (EN2) high turns on Regulator 2. Driving this pin low puts Regulator 2 into shutdown mode, reducing operating current.", 5 GND (power) "Ground.", 6 EN1 (in) "Enable pin for Regulator 1. Driving the Enable pin (EN1) high turns on Regulator 1. Driving this pin low puts Regulator 1 into shutdown mode, reducing operating current.", 7 GND (power) "DRV thermal pad should also be connected to ground."

## TPS71928-28DRVRG4
designator U?
Dual Output High PSRR LDO, 200 mA, Fixed 2.8 V Output, 2.7 to 6.5 V Input, 6-pin SON (DRV), -40 to 125 degC, Green (RoHS & no Sb/Br); Manufacturer: Texas Instruments; PartNumber: TPS71928-28DRVRG4; Fixed Output Options(V): 2.8; Iout(Max)(A): 0.2; Iq(Typ)(mA): 0.09; SubFamily: Dual Channel LDO; Vdo(Typ)(mV): 230; Vin(Max)(V): 6.5; Vin(Min)(V): 2.7; DatasheetVersion: SBVS088C; PackageVersion: 4206925/E; PackageReference: DRV6-1600X1000TP; PackageDescription: 6-Pin Plastic Small Outline No-Lead, Body 2 x 2 mm, Pitch 0.65 mm; Supplier 1: Digi-Key; Supplier Part Number 1: TPS71928-28DRVRG4-ND; Supplier 2: Newark; Supplier Part Number 2: 41M5901; Supplier 3: Mouser; Supplier Part Number 3: 595-TPS7192828DRVRG4; Eco-Plan: Green (RoHS & no Sb/Br); Iout2(A): 0.2; Vout(Max)(V): 2.8; Vout(Min)(V): 2.8; Vout2(Max)(V): 2.8; Vout2(Min)(V): 2.8; Mounting Technology: Surface Mount; ComponentLink1Description: Manufacturer URL; ComponentLink1URL: http://www.ti.com/; ComponentLink2Description: Datasheet; ComponentLink2URL: http://www.ti.com/general/docs/lit/getliterature.tsp?genericPartNumber=TPS71928-28&fileType=pdf; ComponentLink3Description: Package Specification; ComponentLink3URL: http://www.ti.com/litv/pdf/mpds216d
footprint TI-DRV6-1600X1000TP_V (SON, 6-Leads, Body 2x2mm, Pitch 0.65mm, Thermal Pad 1X1.6mm)
pins: 1 OUT1 (power) "Output of Regulator 1. A small ceramic capacitor (typically >= 1uF) is needed from this pin to ground to assure stability.", 2 IN (power) "Input supply to both regulators.", 3 OUT2 (power) "Output of Regulator 2. A small ceramic capacitor (typically >= 1uF) is needed from this pin to ground to assure stability.", 4 EN2 (in) "Enable pin for Regulator 2. Driving the Enable pin (EN2) high turns on Regulator 2. Driving this pin low puts Regulator 2 into shutdown mode, reducing operating current.", 5 GND (power) "Ground.", 6 EN1 (in) "Enable pin for Regulator 1. Driving the Enable pin (EN1) high turns on Regulator 1. Driving this pin low puts Regulator 1 into shutdown mode, reducing operating current.", 7 GND (power) "DRV thermal pad should also be connected to ground."

## TPS71928-28DRVT
designator U?
Dual Output High PSRR LDO, 200 mA, Fixed 2.8 V Output, 2.7 to 6.5 V Input, 6-pin SON (DRV), -40 to 125 degC, Green (RoHS & no Sb/Br); Manufacturer: Texas Instruments; PartNumber: TPS71928-28DRVT; Fixed Output Options(V): 2.8; Iout(Max)(A): 0.2; Iq(Typ)(mA): 0.09; SubFamily: Dual Channel LDO; Vdo(Typ)(mV): 230; Vin(Max)(V): 6.5; Vin(Min)(V): 2.7; DatasheetVersion: SBVS088C; PackageVersion: 4206925/E; PackageReference: DRV6-1600X1000TP; PackageDescription: 6-Pin Plastic Small Outline No-Lead, Body 2 x 2 mm, Pitch 0.65 mm; Supplier 1: Digi-Key; Supplier Part Number 1: 296-32547-2-ND; Supplier 2: Digi-Key; Supplier Part Number 2: 296-32547-1-ND; Supplier 3: Digi-Key; Supplier Part Number 3: 296-32547-6-ND; Supplier 4: Newark; Supplier Part Number 4: 37M0077; Supplier 5: Mouser; Supplier Part Number 5: 595-TPS71928-28DRVT; Eco-Plan: Green (RoHS & no Sb/Br); Iout2(A): 0.2; Vout(Max)(V): 2.8; Vout(Min)(V): 2.8; Vout2(Max)(V): 2.8; Vout2(Min)(V): 2.8; Mounting Technology: Surface Mount; ComponentLink1Description: Manufacturer URL; ComponentLink1URL: http://www.ti.com/; ComponentLink2Description: Datasheet; ComponentLink2URL: http://www.ti.com/general/docs/lit/getliterature.tsp?genericPartNumber=TPS71928-28&fileType=pdf; ComponentLink3Description: Package Specification; ComponentLink3URL: http://www.ti.com/litv/pdf/mpds216d
footprint TI-DRV6-1600X1000TP_V (SON, 6-Leads, Body 2x2mm, Pitch 0.65mm, Thermal Pad 1X1.6mm)
pins: 1 OUT1 (power) "Output of Regulator 1. A small ceramic capacitor (typically >= 1uF) is needed from this pin to ground to assure stability.", 2 IN (power) "Input supply to both regulators.", 3 OUT2 (power) "Output of Regulator 2. A small ceramic capacitor (typically >= 1uF) is needed from this pin to ground to assure stability.", 4 EN2 (in) "Enable pin for Regulator 2. Driving the Enable pin (EN2) high turns on Regulator 2. Driving this pin low puts Regulator 2 into shutdown mode, reducing operating current.", 5 GND (power) "Ground.", 6 EN1 (in) "Enable pin for Regulator 1. Driving the Enable pin (EN1) high turns on Regulator 1. Driving this pin low puts Regulator 1 into shutdown mode, reducing operating current.", 7 GND (power) "DRV thermal pad should also be connected to ground."

## TPS71928-28DRVTG4
designator U?
Dual Output High PSRR LDO, 200 mA, Fixed 2.8 V Output, 2.7 to 6.5 V Input, 6-pin SON (DRV), -40 to 125 degC, Green (RoHS & no Sb/Br); Manufacturer: Texas Instruments; PartNumber: TPS71928-28DRVTG4; Fixed Output Options(V): 2.8; Iout(Max)(A): 0.2; Iq(Typ)(mA): 0.09; SubFamily: Dual Channel LDO; Vdo(Typ)(mV): 230; Vin(Max)(V): 6.5; Vin(Min)(V): 2.7; DatasheetVersion: SBVS088C; PackageVersion: 4206925/E; PackageReference: DRV6-1600X1000TP; PackageDescription: 6-Pin Plastic Small Outline No-Lead, Body 2 x 2 mm, Pitch 0.65 mm; Supplier 1: Digi-Key; Supplier Part Number 1: TPS71928-28DRVTG4-ND; Supplier 2: Newark; Supplier Part Number 2: 41M5902; Supplier 3: Mouser; Supplier Part Number 3: 595-TPS7192828DRVTG4; Eco-Plan: Green (RoHS & no Sb/Br); Iout2(A): 0.2; Vout(Max)(V): 2.8; Vout(Min)(V): 2.8; Vout2(Max)(V): 2.8; Vout2(Min)(V): 2.8; Mounting Technology: Surface Mount; ComponentLink1Description: Manufacturer URL; ComponentLink1URL: http://www.ti.com/; ComponentLink2Description: Datasheet; ComponentLink2URL: http://www.ti.com/general/docs/lit/getliterature.tsp?genericPartNumber=TPS71928-28&fileType=pdf; ComponentLink3Description: Package Specification; ComponentLink3URL: http://www.ti.com/litv/pdf/mpds216d
footprint TI-DRV6-1600X1000TP_V (SON, 6-Leads, Body 2x2mm, Pitch 0.65mm, Thermal Pad 1X1.6mm)
pins: 1 OUT1 (power) "Output of Regulator 1. A small ceramic capacitor (typically >= 1uF) is needed from this pin to ground to assure stability.", 2 IN (power) "Input supply to both regulators.", 3 OUT2 (power) "Output of Regulator 2. A small ceramic capacitor (typically >= 1uF) is needed from this pin to ground to assure stability.", 4 EN2 (in) "Enable pin for Regulator 2. Driving the Enable pin (EN2) high turns on Regulator 2. Driving this pin low puts Regulator 2 into shutdown mode, reducing operating current.", 5 GND (power) "Ground.", 6 EN1 (in) "Enable pin for Regulator 1. Driving the Enable pin (EN1) high turns on Regulator 1. Driving this pin low puts Regulator 1 into shutdown mode, reducing operating current.", 7 GND (power) "DRV thermal pad should also be connected to ground."

## TPS71933-28DRVR
designator U?
Dual Output High PSRR LDO, 200 mA, Fixed 3.3, 2.8 V Output, 2.7 to 6.5 V Input, 6-pin SON (DRV), -40 to 125 degC, Green (RoHS & no Sb/Br); Manufacturer: Texas Instruments; PartNumber: TPS71933-28DRVR; Iout(Max)(A): 0.2; Iq(Typ)(mA): 0.09; SubFamily: Dual Channel LDO; Vdo(Typ)(mV): 230; Vin(Max)(V): 6.5; Vin(Min)(V): 2.7; Vout(Max)(V): 3.3; Vout2(Max)(V): 2.8; DatasheetVersion: SBVS088C; PackageVersion: 4206925/E; PackageReference: DRV6-1600X1000TP; PackageDescription: 6-Pin Plastic Small Outline No-Lead, Body 2 x 2 mm, Pitch 0.65 mm; Supplier 1: Digi-Key; Supplier Part Number 1: 296-21661-2-ND; Supplier 2: Digi-Key; Supplier Part Number 2: 296-21661-1-ND; Supplier 3: Digi-Key; Supplier Part Number 3: 296-21661-6-ND; Supplier 4: Newark; Supplier Part Number 4: 37M0078; Supplier 5: Mouser; Supplier Part Number 5: 595-TPS71933-28DRVR; Eco-Plan: Green (RoHS & no Sb/Br); Fixed Output Options(V): 3.3, 2.8; Iout2(A): 0.2; Vout(Min)(V): 3.3; Vout2(Min)(V): 2.8; Mounting Technology: Surface Mount; ComponentLink1Description: Manufacturer URL; ComponentLink1URL: http://www.ti.com/; ComponentLink2Description: Datasheet; ComponentLink2URL: http://www.ti.com/general/docs/lit/getliterature.tsp?genericPartNumber=TPS71933-28&fileType=pdf; ComponentLink3Description: Package Specification; ComponentLink3URL: http://www.ti.com/litv/pdf/mpds216d
footprint TI-DRV6-1600X1000TP_V (SON, 6-Leads, Body 2x2mm, Pitch 0.65mm, Thermal Pad 1X1.6mm)
pins: 1 OUT1 (power) "Output of Regulator 1. A small ceramic capacitor (typically >= 1uF) is needed from this pin to ground to assure stability.", 2 IN (power) "Input supply to both regulators.", 3 OUT2 (power) "Output of Regulator 2. A small ceramic capacitor (typically >= 1uF) is needed from this pin to ground to assure stability.", 4 EN2 (in) "Enable pin for Regulator 2. Driving the Enable pin (EN2) high turns on Regulator 2. Driving this pin low puts Regulator 2 into shutdown mode, reducing operating current.", 5 GND (power) "Ground.", 6 EN1 (in) "Enable pin for Regulator 1. Driving the Enable pin (EN1) high turns on Regulator 1. Driving this pin low puts Regulator 1 into shutdown mode, reducing operating current.", 7 GND (power) "DRV thermal pad should also be connected to ground."

## TPS71933-28DRVRG4
designator U?
Dual Output High PSRR LDO, 200 mA, Fixed 3.3, 2.8 V Output, 2.7 to 6.5 V Input, 6-pin SON (DRV), -40 to 125 degC, Green (RoHS & no Sb/Br); Manufacturer: Texas Instruments; PartNumber: TPS71933-28DRVRG4; Iout(Max)(A): 0.2; Iq(Typ)(mA): 0.09; SubFamily: Dual Channel LDO; Vdo(Typ)(mV): 230; Vin(Max)(V): 6.5; Vin(Min)(V): 2.7; Vout(Max)(V): 3.3; Vout2(Max)(V): 2.8; DatasheetVersion: SBVS088C; PackageVersion: 4206925/E; PackageReference: DRV6-1600X1000TP; PackageDescription: 6-Pin Plastic Small Outline No-Lead, Body 2 x 2 mm, Pitch 0.65 mm; Supplier 1: Digi-Key; Supplier Part Number 1: TPS71933-28DRVRG4-ND; Supplier 2: Newark; Supplier Part Number 2: 41M5903; Supplier 3: Mouser; Supplier Part Number 3: 595-TPS7193328DRVRG4; Eco-Plan: Green (RoHS & no Sb/Br); Fixed Output Options(V): 3.3, 2.8; Iout2(A): 0.2; Vout(Min)(V): 3.3; Vout2(Min)(V): 2.8; Mounting Technology: Surface Mount; ComponentLink1Description: Manufacturer URL; ComponentLink1URL: http://www.ti.com/; ComponentLink2Description: Datasheet; ComponentLink2URL: http://www.ti.com/general/docs/lit/getliterature.tsp?genericPartNumber=TPS71933-28&fileType=pdf; ComponentLink3Description: Package Specification; ComponentLink3URL: http://www.ti.com/litv/pdf/mpds216d
footprint TI-DRV6-1600X1000TP_V (SON, 6-Leads, Body 2x2mm, Pitch 0.65mm, Thermal Pad 1X1.6mm)
pins: 1 OUT1 (power) "Output of Regulator 1. A small ceramic capacitor (typically >= 1uF) is needed from this pin to ground to assure stability.", 2 IN (power) "Input supply to both regulators.", 3 OUT2 (power) "Output of Regulator 2. A small ceramic capacitor (typically >= 1uF) is needed from this pin to ground to assure stability.", 4 EN2 (in) "Enable pin for Regulator 2. Driving the Enable pin (EN2) high turns on Regulator 2. Driving this pin low puts Regulator 2 into shutdown mode, reducing operating current.", 5 GND (power) "Ground.", 6 EN1 (in) "Enable pin for Regulator 1. Driving the Enable pin (EN1) high turns on Regulator 1. Driving this pin low puts Regulator 1 into shutdown mode, reducing operating current.", 7 GND (power) "DRV thermal pad should also be connected to ground."

## TPS71933-28DRVT
designator U?
Dual Output High PSRR LDO, 200 mA, Fixed 3.3, 2.8 V Output, 2.7 to 6.5 V Input, 6-pin SON (DRV), -40 to 125 degC, Green (RoHS & no Sb/Br); Manufacturer: Texas Instruments; PartNumber: TPS71933-28DRVT; Iout(Max)(A): 0.2; Iq(Typ)(mA): 0.09; SubFamily: Dual Channel LDO; Vdo(Typ)(mV): 230; Vin(Max)(V): 6.5; Vin(Min)(V): 2.7; Vout(Max)(V): 3.3; Vout2(Max)(V): 2.8; DatasheetVersion: SBVS088C; PackageVersion: 4206925/E; PackageReference: DRV6-1600X1000TP; PackageDescription: 6-Pin Plastic Small Outline No-Lead, Body 2 x 2 mm, Pitch 0.65 mm; Supplier 1: Digi-Key; Supplier Part Number 1: TPS71933-28DRVT-ND; Supplier 2: Newark; Supplier Part Number 2: 37M0079; Supplier 3: Mouser; Supplier Part Number 3: 595-TPS71933-28DRVT; Eco-Plan: Green (RoHS & no Sb/Br); Fixed Output Options(V): 3.3, 2.8; Iout2(A): 0.2; Vout(Min)(V): 3.3; Vout2(Min)(V): 2.8; Mounting Technology: Surface Mount; ComponentLink1Description: Manufacturer URL; ComponentLink1URL: http://www.ti.com/; ComponentLink2Description: Datasheet; ComponentLink2URL: http://www.ti.com/general/docs/lit/getliterature.tsp?genericPartNumber=TPS71933-28&fileType=pdf; ComponentLink3Description: Package Specification; ComponentLink3URL: http://www.ti.com/litv/pdf/mpds216d
footprint TI-DRV6-1600X1000TP_V (SON, 6-Leads, Body 2x2mm, Pitch 0.65mm, Thermal Pad 1X1.6mm)
pins: 1 OUT1 (power) "Output of Regulator 1. A small ceramic capacitor (typically >= 1uF) is needed from this pin to ground to assure stability.", 2 IN (power) "Input supply to both regulators.", 3 OUT2 (power) "Output of Regulator 2. A small ceramic capacitor (typically >= 1uF) is needed from this pin to ground to assure stability.", 4 EN2 (in) "Enable pin for Regulator 2. Driving the Enable pin (EN2) high turns on Regulator 2. Driving this pin low puts Regulator 2 into shutdown mode, reducing operating current.", 5 GND (power) "Ground.", 6 EN1 (in) "Enable pin for Regulator 1. Driving the Enable pin (EN1) high turns on Regulator 1. Driving this pin low puts Regulator 1 into shutdown mode, reducing operating current.", 7 GND (power) "DRV thermal pad should also be connected to ground."

## TPS71933-28DRVTG4
designator U?
Dual Output High PSRR LDO, 200 mA, Fixed 3.3, 2.8 V Output, 2.7 to 6.5 V Input, 6-pin SON (DRV), -40 to 125 degC, Green (RoHS & no Sb/Br); Manufacturer: Texas Instruments; PartNumber: TPS71933-28DRVTG4; Iout(Max)(A): 0.2; Iq(Typ)(mA): 0.09; SubFamily: Dual Channel LDO; Vdo(Typ)(mV): 230; Vin(Max)(V): 6.5; Vin(Min)(V): 2.7; Vout(Max)(V): 3.3; Vout2(Max)(V): 2.8; DatasheetVersion: SBVS088C; PackageVersion: 4206925/E; PackageReference: DRV6-1600X1000TP; PackageDescription: 6-Pin Plastic Small Outline No-Lead, Body 2 x 2 mm, Pitch 0.65 mm; Supplier 1: Digi-Key; Supplier Part Number 1: TPS71933-28DRVTG4-ND; Supplier 2: Newark; Supplier Part Number 2: 41M5904; Supplier 3: Mouser; Supplier Part Number 3: 595-TPS7193328DRVTG4; Eco-Plan: Green (RoHS & no Sb/Br); Fixed Output Options(V): 3.3, 2.8; Iout2(A): 0.2; Vout(Min)(V): 3.3; Vout2(Min)(V): 2.8; Mounting Technology: Surface Mount; ComponentLink1Description: Manufacturer URL; ComponentLink1URL: http://www.ti.com/; ComponentLink2Description: Datasheet; ComponentLink2URL: http://www.ti.com/general/docs/lit/getliterature.tsp?genericPartNumber=TPS71933-28&fileType=pdf; ComponentLink3Description: Package Specification; ComponentLink3URL: http://www.ti.com/litv/pdf/mpds216d
footprint TI-DRV6-1600X1000TP_V (SON, 6-Leads, Body 2x2mm, Pitch 0.65mm, Thermal Pad 1X1.6mm)
pins: 1 OUT1 (power) "Output of Regulator 1. A small ceramic capacitor (typically >= 1uF) is needed from this pin to ground to assure stability.", 2 IN (power) "Input supply to both regulators.", 3 OUT2 (power) "Output of Regulator 2. A small ceramic capacitor (typically >= 1uF) is needed from this pin to ground to assure stability.", 4 EN2 (in) "Enable pin for Regulator 2. Driving the Enable pin (EN2) high turns on Regulator 2. Driving this pin low puts Regulator 2 into shutdown mode, reducing operating current.", 5 GND (power) "Ground.", 6 EN1 (in) "Enable pin for Regulator 1. Driving the Enable pin (EN1) high turns on Regulator 1. Driving this pin low puts Regulator 1 into shutdown mode, reducing operating current.", 7 GND (power) "DRV thermal pad should also be connected to ground."

## TPS71933-33DRVR
designator U?
Dual Output High PSRR LDO, 200 mA, Fixed 3.3 V Output, 2.7 to 6.5 V Input, 6-pin SON (DRV), -40 to 125 degC, Green (RoHS & no Sb/Br); Manufacturer: Texas Instruments; PartNumber: TPS71933-33DRVR; Fixed Output Options(V): 3.3; Iout(Max)(A): 0.2; Iq(Typ)(mA): 0.09; SubFamily: Dual Channel LDO; Vdo(Typ)(mV): 230; Vin(Max)(V): 6.5; Vin(Min)(V): 2.7; DatasheetVersion: SBVS088C; PackageVersion: 4206925/E; PackageReference: DRV6-1600X1000TP; PackageDescription: 6-Pin Plastic Small Outline No-Lead, Body 2 x 2 mm, Pitch 0.65 mm; Supplier 1: Digi-Key; Supplier Part Number 1: 296-21662-2-ND; Supplier 2: Digi-Key; Supplier Part Number 2: 296-21662-1-ND; Supplier 3: Digi-Key; Supplier Part Number 3: 296-21662-6-ND; Supplier 4: Newark; Supplier Part Number 4: 37M0080; Supplier 5: Mouser; Supplier Part Number 5: 595-TPS71933-33DRVR; Eco-Plan: Green (RoHS & no Sb/Br); Iout2(A): 0.2; Vout(Max)(V): 3.3; Vout(Min)(V): 3.3; Vout2(Max)(V): 3.3; Vout2(Min)(V): 3.3; Mounting Technology: Surface Mount; ComponentLink1Description: Manufacturer URL; ComponentLink1URL: http://www.ti.com/; ComponentLink2Description: Datasheet; ComponentLink2URL: http://www.ti.com/general/docs/lit/getliterature.tsp?genericPartNumber=TPS71933-33&fileType=pdf; ComponentLink3Description: Package Specification; ComponentLink3URL: http://www.ti.com/litv/pdf/mpds216d
footprint TI-DRV6-1600X1000TP_V (SON, 6-Leads, Body 2x2mm, Pitch 0.65mm, Thermal Pad 1X1.6mm)
pins: 1 OUT1 (power) "Output of Regulator 1. A small ceramic capacitor (typically >= 1uF) is needed from this pin to ground to assure stability.", 2 IN (power) "Input supply to both regulators.", 3 OUT2 (power) "Output of Regulator 2. A small ceramic capacitor (typically >= 1uF) is needed from this pin to ground to assure stability.", 4 EN2 (in) "Enable pin for Regulator 2. Driving the Enable pin (EN2) high turns on Regulator 2. Driving this pin low puts Regulator 2 into shutdown mode, reducing operating current.", 5 GND (power) "Ground.", 6 EN1 (in) "Enable pin for Regulator 1. Driving the Enable pin (EN1) high turns on Regulator 1. Driving this pin low puts Regulator 1 into shutdown mode, reducing operating current.", 7 GND (power) "DRV thermal pad should also be connected to ground."

## TPS71933-33DRVRG4
designator U?
Dual Output High PSRR LDO, 200 mA, Fixed 3.3 V Output, 2.7 to 6.5 V Input, 6-pin SON (DRV), -40 to 125 degC, Green (RoHS & no Sb/Br); Manufacturer: Texas Instruments; PartNumber: TPS71933-33DRVRG4; Fixed Output Options(V): 3.3; Iout(Max)(A): 0.2; Iq(Typ)(mA): 0.09; SubFamily: Dual Channel LDO; Vdo(Typ)(mV): 230; Vin(Max)(V): 6.5; Vin(Min)(V): 2.7; DatasheetVersion: SBVS088C; PackageVersion: 4206925/E; PackageReference: DRV6-1600X1000TP; PackageDescription: 6-Pin Plastic Small Outline No-Lead, Body 2 x 2 mm, Pitch 0.65 mm; Supplier 1: Digi-Key; Supplier Part Number 1: TPS71933-33DRVRG4-ND; Supplier 2: Newark; Supplier Part Number 2: 41M5906; Supplier 3: Mouser; Supplier Part Number 3: 595-TPS7193333DRVRG4; Eco-Plan: Green (RoHS & no Sb/Br); Iout2(A): 0.2; Vout(Max)(V): 3.3; Vout(Min)(V): 3.3; Vout2(Max)(V): 3.3; Vout2(Min)(V): 3.3; Mounting Technology: Surface Mount; ComponentLink1Description: Manufacturer URL; ComponentLink1URL: http://www.ti.com/; ComponentLink2Description: Datasheet; ComponentLink2URL: http://www.ti.com/general/docs/lit/getliterature.tsp?genericPartNumber=TPS71933-33&fileType=pdf; ComponentLink3Description: Package Specification; ComponentLink3URL: http://www.ti.com/litv/pdf/mpds216d
footprint TI-DRV6-1600X1000TP_V (SON, 6-Leads, Body 2x2mm, Pitch 0.65mm, Thermal Pad 1X1.6mm)
pins: 1 OUT1 (power) "Output of Regulator 1. A small ceramic capacitor (typically >= 1uF) is needed from this pin to ground to assure stability.", 2 IN (power) "Input supply to both regulators.", 3 OUT2 (power) "Output of Regulator 2. A small ceramic capacitor (typically >= 1uF) is needed from this pin to ground to assure stability.", 4 EN2 (in) "Enable pin for Regulator 2. Driving the Enable pin (EN2) high turns on Regulator 2. Driving this pin low puts Regulator 2 into shutdown mode, reducing operating current.", 5 GND (power) "Ground.", 6 EN1 (in) "Enable pin for Regulator 1. Driving the Enable pin (EN1) high turns on Regulator 1. Driving this pin low puts Regulator 1 into shutdown mode, reducing operating current.", 7 GND (power) "DRV thermal pad should also be connected to ground."